# Altium integrated library Altera Mercury.IntLib: 11 symbols (part 4 of 4)
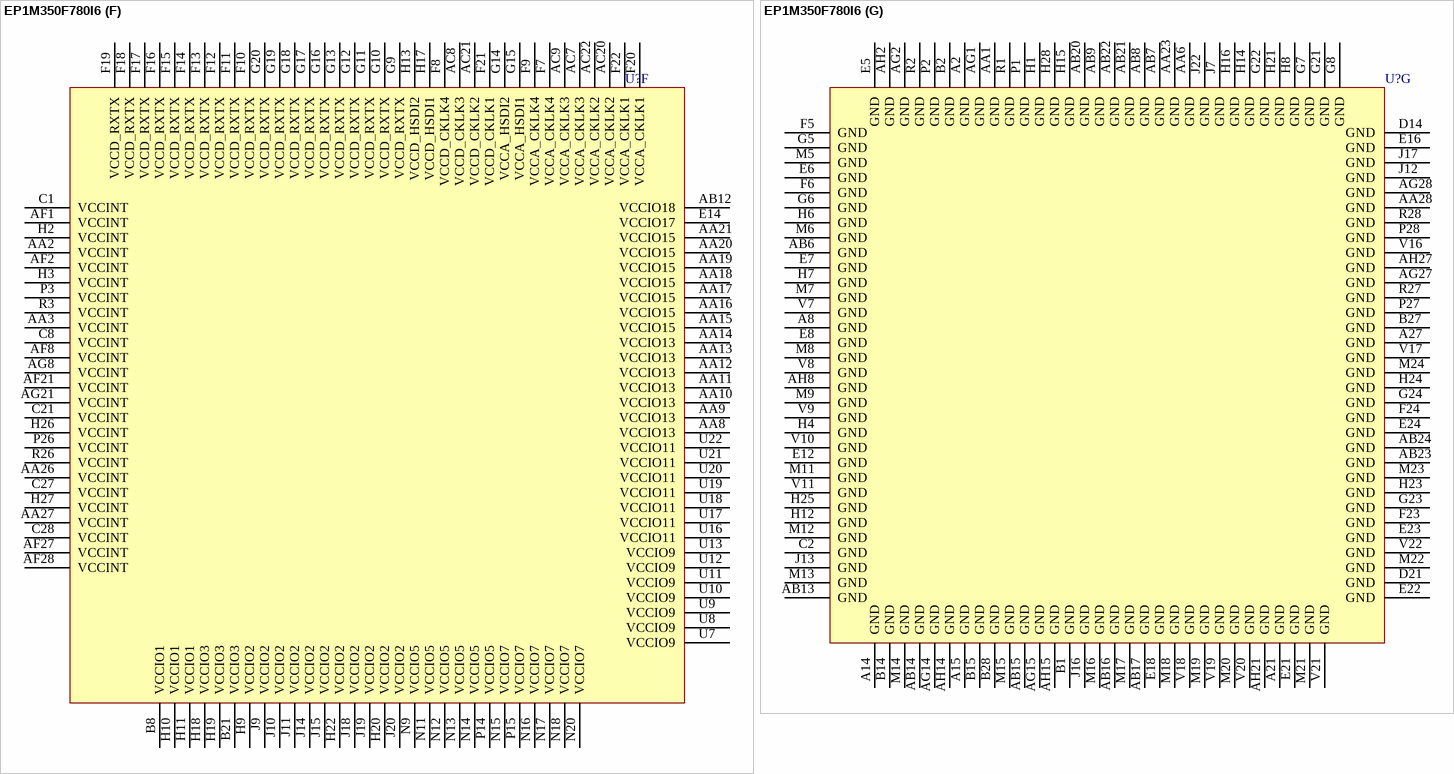
[diagram p38: symbol EP1M350F780I6]

## EP1M350F780I6
designator U?
Mercury 1.8V FPGA, 486 I/O pins, 780-Pin FineLine BGA, Speed Grade 6, Industrial Grade; Published: 17-Jul-2002; LatestRevisionDate: 13-Apr-2006; LatestRevisionNote: IPC-7351 Footprint Added.; DatasheetVersion: ver2.2, Jan-2003; PackageVersion: ver14.1, Oct-2005; PackageReference: FBGA780; Publisher: Altium Limited; PackageDescription: 780-Ball FineLine Ball Grid Array (FBGA780) - Flip Chip; Code_JEDEC: MS-034-AAM-1; ComponentLink1Description: Manufacturer Link; ComponentLink1URL: http://www.altera.com/products/devices/mercury/overview/mcy-overview.html; ComponentLink2Description: Datasheet; ComponentLink2URL: http://www.altera.com/literature/ds/dsmercury.pdf; ComponentLink3Description: Packaging Specification; ComponentLink3URL: http://www.altera.com/literature/ds/dspkg.pdf
footprint FBGA780 (BGA, 780-Leads, Body 29x29mm, Pitch 1mm)
3D model EP1M350-FBGA780 (780-Ball FineLine Ball Grid Array (FBGA780) - Flip Chip)
part A pins: A3 IO, HSDI_RX1p (io), A4 IO, HSDI_RX2p (io), A5 IO, HSDI_RX3p (io), A6 IO, HSDI_RX4p (io), A7 IO, HSDI_RX5p (io), A9 IO, HSDI_RX6p (io), A10 IO, HSDI_RX7p (io), A11 IO, HSDI_RX8p (io), A12 IO, HSDI_RX9p (io), A13 HSDI_CLK1n (in), A16 HSDI_CLK2p (in), A17 IO, HSDI_RX10p (io), A18 IO, HSDI_RX11p (io), A19 IO, HSDI_RX12p (io), A20 IO, HSDI_RX13p (io), A22 IO, HSDI_RX14p (io), A23 IO, HSDI_RX15p (io), A24 IO, HSDI_RX16p (io), A25 IO, HSDI_RX17p (io), A26 IO, HSDI_RX18p (io), B3 IO, HSDI_RX1n (io), B4 IO, HSDI_RX2n (io), B5 IO, HSDI_RX3n (io), B6 IO, HSDI_RX4n (io), B7 IO, HSDI_RX5n (io), B9 IO, HSDI_RX6n (io), B10 IO, HSDI_RX7n (io), B11 IO, HSDI_RX8n (io), B12 IO, HSDI_RX9n (io), B13 HSDI_CLK1p (in), B16 HSDI_CLK2n (in), B17 IO, HSDI_RX10n (io), B18 IO, HSDI_RX11n (io), B19 IO, HSDI_RX12n (io), B20 IO, HSDI_RX13n (io), B22 IO, HSDI_RX14n (io), B23 IO, HSDI_RX15n (io), B24 IO, HSDI_RX16n (io), B25 IO, HSDI_RX17n (io), B26 IO, HSDI_RX18n (io), K5 IO, HSDI_TX1n (io), K6 IO, HSDI_TX2n (io), K7 IO, HSDI_TX3n (io), K8 IO, HSDI_TX4n (io), K9 IO, HSDI_TX5n (io), K10 IO, HSDI_TX6n (io), K11 IO, HSDI_TX7n (io), K12 IO, HSDI_TX8n (io), K13 IO, HSDI_TX9n (io), K14 HSDI_TXCLKOUT1n (out), K15 IO, VREF3 (io), K16 IO, HSDI_TX10n (io), K17 IO, HSDI_TX11n (io), K18 IO, HSDI_TX12n (io), K19 IO, HSDI_TX13n (io), K20 IO, HSDI_TX14n (io), K21 IO, HSDI_TX15n (io), K22 IO, HSDI_TX16n (io), K23 IO, HSDI_TX17n (io), K24 IO, HSDI_TX18n (io), L5 IO, HSDI_TX1p (io), L6 IO, HSDI_TX2p (io), L7 IO, HSDI_TX3p (io), L8 IO, HSDI_TX4p (io), L9 IO, HSDI_TX5p (io), L10 IO, HSDI_TX6p (io), L11 IO, HSDI_TX7p (io), L12 IO, HSDI_TX8p (io), L13 IO, HSDI_TX9p (io), L14 HSDI_TXCLKOUT1p (out), L15 IO, VREF4 (io), L16 IO, HSDI_TX10p (io), L17 IO, HSDI_TX11p (io), L18 IO, HSDI_TX12p (io), L19 IO, HSDI_TX13p (io), L20 IO, HSDI_TX14p (io), L21 IO, HSDI_TX15p (io), L22 IO, HSDI_TX16p (io), L23 IO, HSDI_TX17p (io), L24 IO, HSDI_TX18p (io), M10 IO, VREF1 (io), N10 IO, VREF2 (io)
part B pins: AB10 CLKLK_FB3p (in), AB11 CLKLK_FB3n, CLKLK_FB3VREF (in), AB18 CLKLK_FB2n, CLKLK_FB2VREF (in), AB19 CLKLK_FB2p (in), C3 IO, DEV_CLRn, FlexDiff_RX27p (io), C4 IO, FlexDiff_RX27n (io), C5 IO, LOCK4, FlexDiff_TX24n (io), C6 IO, FlexDiff_RX24p (io), C7 IO, FlexDiff_TX21n (io), C9 IO, FlexDiff_RX25p (io), C10 IO, FlexDiff_TX22n (io), C11 IO, FlexDiff_RX26p (io), C12 IO, FlexDiff_TX23n (io), C17 IO, FlexDiff_RX1p (io), C18 IO, FlexDiff_TX1n (io), C19 IO, FlexDiff_RX2p (io), C20 IO, FlexDiff_TX2n (io), C22 IO, FlexDiff_RX3p (io), C23 IO, FlexDiff_TX3n (io), C24 IO, FlexDiff_RX4p (io), C25 IO, FlexDiff_TX4n (io), C26 IO, VREF8, FlexDiff_TX4p (io), D1 IO, DATA2, FlexDiff_RX30n (io), D2 IO, DATA4, FlexDiff_RX30p (io), D3 IO, INIT_DONE, FlexDiff_RX28n (io), D4 IO, nRS, FlexDiff_RX28p (io), D5 IO, VREF5, FlexDiff_TX24p (io), D6 IO, FlexDiff_RX24n (io), D7 IO, FlexDiff_TX21p (io), D9 IO, FlexDiff_RX25n (io), D10 IO, FlexDiff_TX22p (io), D11 IO, FlexDiff_RX26n (io), D12 IO, FlexDiff_TX23p (io), D17 IO, LOCK1, FlexDiff_RX1n (io), D18 IO, FlexDiff_TX1p (io), D19 IO, FlexDiff_RX2n (io), D20 IO, FlexDiff_TX2p (io), D22 IO, FlexDiff_RX3n (io), D23 IO, FlexDiff_TX3p (io), D24 IO, FlexDiff_RX4n (io), D25 IO, FlexDiff_RX7n (io), D26 IO, FlexDiff_RX7p (io), D27 IO, FlexDiff_RX5n (io), D28 IO, FlexDiff_RX5p (io), E1 IO, DATA5, FlexDiff_RX31n (io), E2 IO, DATA1, FlexDiff_RX31p (io), E3 IO, CS, FlexDiff_RX29n (io), E4 IO, CLKUSR, FlexDiff_RX29p (io), E9 CLKLK_FB4p (in), E10 CLKLK_FB4n, CLKLK_FB4VREF (in), E19 CLKLK_FB1n, CLKLK_FB1VREF (in), E20 CLKLK_FB1p (in), E25 IO, FlexDiff_RX8n (io), E26 IO, FlexDiff_RX8p (io), E27 IO, FlexDiff_RX6n (io), E28 IO, FlexDiff_RX6p (io), F1 IO, DATA6, FlexDiff_TX27p (io), F2 IO, DATA7, FlexDiff_TX27n (io), F3 IO, RDYnBSY, FlexDiff_TX25p (io), F4 IO, DEV_OE, FlexDiff_TX25n (io), F25 IO, FlexDiff_TX8n (io), F26 IO, FlexDiff_TX8p (io), F27 IO, FlexDiff_TX6n (io), F28 IO, FlexDiff_TX6p (io), G1 IO, FlexDiff_TX28p (io), G2 IO, DATA3, FlexDiff_TX28n (io), G3 IO, nWS, FlexDiff_TX26p (io), G4 IO, nCS, FlexDiff_TX26n (io), G25 IO, FlexDiff_TX7n (io), G26 IO, FlexDiff_TX7p (io), G27 IO, FlexDiff_TX5p (io), G28 IO, FlexDiff_TX5n (io), H5 IO, VREF6 (io), J1 IO, FlexDiff_RX21n (io), J2 IO, FlexDiff_RX21p (io), J3 IO, FlexDiff_RX23p (io), J4 IO, FlexDiff_RX23n (io), J25 IO, FlexDiff_RX11n (io), J26 IO, FlexDiff_RX11p (io), J27 IO, FlexDiff_RX9n (io), J28 IO, FlexDiff_RX9p (io), K1 IO, FlexDiff_RX22n (io), K2 IO, FlexDiff_RX22p (io), K3 IO, FlexDiff_RX20n (io), K4 IO, FlexDiff_RX20p (io), K25 IO, FlexDiff_RX12n (io), K26 IO, FlexDiff_RX12p (io), K27 IO, FlexDiff_RX10n (io), K28 IO, FlexDiff_RX10p (io), L1 IO, FlexDiff_TX18p (io), L2 IO, FlexDiff_TX18n (io), L3 IO, FlexDiff_TX17n (io), L4 IO, FlexDiff_TX17p (io), L25 IO, FlexDiff_TX11p (io), L26 IO, FlexDiff_TX11n (io), L27 IO, FlexDiff_TX10n (io), L28 IO, FlexDiff_TX10p (io), M1 IO, FlexDiff_TX19p (io), M2 IO, FlexDiff_TX19n (io), M3 IO, FlexDiff_TX16p (io), M4 IO, FlexDiff_TX16n (io), M25 IO, FlexDiff_TX12p (io), M26 IO, FlexDiff_TX12n (io), M27 IO, FlexDiff_TX9n (io), M28 IO, FlexDiff_TX9p (io), N1 IO, FlexDiff_RX18n (io), N2 IO, FlexDiff_RX18p (io), N3 IO, FlexDiff_RX16n (io), N4 IO, FlexDiff_RX16p (io), N19 IO, FlexDiff_RX15p (io), N21 IO, FlexDiff_TX14n (io), N25 IO, FlexDiff_RX14n (io), N26 IO, FlexDiff_RX14p (io), N27 IO, FlexDiff_RX13n (io), N28 IO, FlexDiff_RX13p (io), P4 IO, FlexDiff_TX20p (io), P5 IO (io), P13 IO, FAST_ROW2 (io), P16 IO, FAST_ROW1 (io), P17 IO (io), P18 IO, FlexDiff_TX15n (io), P19 IO, FlexDiff_TX15p (io), P20 IO, FlexDiff_RX15n (io), P21 IO, VREF7, FlexDiff_TX14p (io), R4 IO, FlexDiff_TX20n (io), R13 CLK4p (in), R14 CLK3p (in), R15 CLK2p (in), R16 CLK1p (in), T1 IO, FlexDiff_RX19n (io), T2 IO, FlexDiff_RX19p (io), T3 IO, FlexDiff_RX17n (io), T4 IO, FlexDiff_RX17p (io), T13 CLK4n, CLK4VREF (in), T14 CLK3n, CLK3VREF (in), T15 CLK2n, CLK2VREF (in), T16 CLK1n, CLK1VREF (in), T27 IO, FlexDiff_TX13p (io), T28 IO, FlexDiff_TX13n (io)
part C pins: AA24 IO, FlexDiff_RX40p (io), AA25 IO, FlexDiff_RX40n (io), AB25 IO, FlexDiff_TX37n (io), AB26 IO, FlexDiff_TX37p (io), N5 IO, FlexDiff_RX63p (io), N6 IO, FlexDiff_RX62p (io), N7 IO, FlexDiff_RX55p (io), N8 IO, FlexDiff_TX53n (io), N22 IO, FlexDiff_RX35p (io), N23 IO, FlexDiff_RX33n (io), N24 IO, FlexDiff_RX33p (io), P6 IO, FlexDiff_RX63n (io), P7 IO, FlexDiff_RX62n (io), P8 IO, FlexDiff_RX55n (io), P9 IO, FlexDiff_TX53p (io), P10 IO (io), P11 IO (io), P12 IO (io), P22 IO, FlexDiff_RX35n (io), P23 IO, FlexDiff_RX34n (io), P24 IO, FlexDiff_RX34p (io), P25 IO, FlexDiff_TX29p (io), R5 IO, FlexDiff_TX64n (io), R6 IO, FlexDiff_TX63n (io), R7 IO, FlexDiff_TX56n (io), R8 IO, FlexDiff_RX54p (io), R9 IO, FlexDiff_RX53p (io), R10 IO, FlexDiff_RX52p (io), R11 IO, FlexDiff_TX50n (io), R12 IO, FAST4, FlexDiff_RX49n (io), R17 IO, FAST1, FlexDiff_RX48n (io), R18 IO, FlexDiff_RX46p (io), R19 IO, FlexDiff_RX45p (io), R20 IO, FlexDiff_RX44p (io), R21 IO, FlexDiff_RX43p (io), R22 IO, FlexDiff_TX32n (io), R23 IO, FlexDiff_TX30p (io), R24 IO, FlexDiff_TX30n (io), R25 IO, FlexDiff_TX29n (io), T5 IO, FlexDiff_TX64p (io), T6 IO, FlexDiff_TX63p (io), T7 IO, FlexDiff_TX56p (io), T8 IO, FlexDiff_RX54n (io), T9 IO, FlexDiff_RX53n (io), T10 IO, FlexDiff_RX52n (io), T11 IO, VREF10, FlexDiff_TX50p (io), T12 IO, FAST6, FlexDiff_RX49p (io), T17 IO, FAST3, FlexDiff_RX48p (io), T18 IO, FlexDiff_RX46n (io), T19 IO, FlexDiff_RX45n (io), T20 IO, FlexDiff_RX44n (io), T21 IO, FlexDiff_RX43n (io), T22 IO, VREF12, FlexDiff_TX32p (io), T23 IO, FlexDiff_TX31p (io), T24 IO, FlexDiff_TX31n (io), T25 IO, FlexDiff_RX32n (io), T26 IO, FlexDiff_RX32p (io), U1 IO, FlexDiff_RX60n (io), U2 IO, FlexDiff_RX60p (io), U3 IO, FlexDiff_RX58n (io), U4 IO, FlexDiff_RX58p (io), U5 IO, FlexDiff_RX57p (io), U6 IO, FlexDiff_RX56p (io), U14 IO, FAST_ROW4, FlexDiff_TX47n (io), U15 IO, FAST2, FlexDiff_TX46n (io), U23 IO, FlexDiff_RX42p (io), U24 IO, FlexDiff_RX42n (io), U25 IO, FlexDiff_RX38n (io), U26 IO, FlexDiff_RX38p (io), U27 IO, FlexDiff_RX36n (io), U28 IO, FlexDiff_RX36p (io), V1 IO, FlexDiff_RX61n (io), V2 IO, FlexDiff_RX61p (io), V3 IO, FlexDiff_RX59p (io), V4 IO, FlexDiff_RX59n (io), V5 IO, FlexDiff_RX57n (io), V6 IO, FlexDiff_RX56n (io), V12 IO, FlexDiff_RX50p (io), V13 IO, FlexDiff_RX50n (io), V14 IO, FAST5, FlexDiff_TX47p (io), V15 IO, FAST_ROW3, FlexDiff_TX46p (io), V23 IO, FlexDiff_RX41p (io), V24 IO, FlexDiff_RX41n (io), V25 IO, FlexDiff_RX39n (io), V26 IO, FlexDiff_RX39p (io), V27 IO, FlexDiff_RX37n (io), V28 IO, FlexDiff_RX37p (io), W1 IO, FlexDiff_TX61p (io), W2 IO, FlexDiff_TX61n (io), W3 IO, FlexDiff_TX59p (io), W4 IO, FlexDiff_TX59n (io), W5 IO, FlexDiff_TX58n (io), W6 IO, FlexDiff_TX57n (io), W7 IO, FlexDiff_TX55n (io), W8 IO, FlexDiff_TX55p (io), W9 IO, FlexDiff_TX54n (io), W10 IO, FlexDiff_TX52n (io), W11 IO, FlexDiff_TX51n (io), W12 IO, FlexDiff_TX49n (io), W13 IO, FlexDiff_TX48n (io), W14 IO, FlexDiff_RX51p (io), W15 IO, FlexDiff_RX47p (io), W16 IO, FlexDiff_TX45n (io), W17 IO, FlexDiff_TX44n (io), W18 IO, FlexDiff_TX43n (io), W19 IO, FlexDiff_TX42n (io), W20 IO, FlexDiff_TX41n (io), W21 IO, FlexDiff_TX40n (io), W22 IO, FlexDiff_TX40p (io), W23 IO, FlexDiff_TX39n (io), W24 IO, FlexDiff_TX39p (io), W25 IO, FlexDiff_TX35p (io), W26 IO, FlexDiff_TX35n (io), W27 IO, FlexDiff_TX33p (io), W28 IO, FlexDiff_TX33n (io), Y1 IO, FlexDiff_TX62p (io), Y2 IO, FlexDiff_TX62n (io), Y3 IO, VREF9, FlexDiff_TX60p (io), Y4 IO, FlexDiff_TX60n (io), Y5 IO, FlexDiff_TX58p (io), Y6 IO, FlexDiff_TX57p (io), Y9 IO, FlexDiff_TX54p (io), Y10 IO, FlexDiff_TX52p (io), Y11 IO, FlexDiff_TX51p (io), Y12 IO, FlexDiff_TX49p (io), Y13 IO, FlexDiff_TX48p (io), Y14 IO, FlexDiff_RX51n (io), Y15 IO, FlexDiff_RX47.n (io), Y16 IO, FlexDiff_TX45p (io), Y17 IO, FlexDiff_TX44p (io), Y18 IO, FlexDiff_TX43p (io), Y19 IO, VREF11, FlexDiff_TX42p (io), Y20 IO, FlexDiff_TX41p (io), Y23 IO, FlexDiff_TX38n (io), Y24 IO, FlexDiff_TX38p (io), Y25 IO, FlexDiff_TX36p (io), Y26 IO, FlexDiff_TX36n (io), Y27 IO, FlexDiff_TX34p (io), Y28 IO, FlexDiff_TX34n (io)
part D pins: AA4 IO, FlexDiff_TX97p (io), AA5 IO, FlexDiff_TX97n (io), AB1 IO, FlexDiff_TX99n (io), AB2 IO, FlexDiff_TX99p (io), AB3 IO, FlexDiff_TX98p (io), AB4 IO, FlexDiff_TX98n (io), AB5 IO, VREF13, FlexDiff_TX96p (io), AB27 IO, FlexDiff_TX65n (io), AB28 IO, LOCK2, FlexDiff_TX65p (io), AC1 IO, FlexDiff_TX100n (io), AC2 IO, LOCK3, FlexDiff_TX100p (io), AC3 IO, FlexDiff_RX97n (io), AC4 IO, FlexDiff_RX97p (io), AC5 IO, FlexDiff_RX95n (io), AC6 IO, FlexDiff_TX96n (io), AC14 IO, FAST_ROW6, FlexDiff_RX82n (io), AC15 IO, FAST_ROW5, FlexDiff_RX81p (io), AC16 IO, FlexDiff_TX79p (io), AC17 IO, FlexDiff_RX78n (io), AC18 IO, FlexDiff_TX76p (io), AC19 IO, FlexDiff_RX75n (io), AC23 IO, VREF16, FlexDiff_TX68p (io), AC24 IO, FlexDiff_RX67n (io), AC25 IO, FlexDiff_TX67p (io), AC26 IO, FlexDiff_TX67n (io), AC27 IO, FlexDiff_TX66n (io), AC28 IO, FlexDiff_TX66p (io), AD1 IO, FlexDiff_RX98p (io), AD2 IO, FlexDiff_RX98n (io), AD3 IO, FlexDiff_RX96n (io), AD4 IO, FlexDiff_RX96p (io), AD5 IO, FlexDiff_RX95p (io), AD6 IO, FlexDiff_RX89n (io), AD7 IO, FlexDiff_RX89p (io), AD8 IO, FlexDiff_TX90p (io), AD9 IO, FlexDiff_RX86n (io), AD10 IO, FlexDiff_RX86p (io), AD11 IO, FlexDiff_TX87p (io), AD12 IO, FlexDiff_TX87n (io), AD14 IO, FlexDiff_RX82p (io), AD15 IO, FlexDiff_RX81n (io), AD16 IO, FlexDiff_TX79n (io), AD17 IO, FlexDiff_RX78p (io), AD18 IO, FlexDiff_TX76n (io), AD19 IO, FlexDiff_RX75p (io), AD20 IO, FlexDiff_TX74p (io), AD21 IO, FlexDiff_RX73n (io), AD22 IO, FlexDiff_RX73p (io), AD23 IO, FlexDiff_TX68n (io), AD24 IO, FlexDiff_RX67p (io), AD25 IO, FlexDiff_RX66n (io), AD26 IO, FlexDiff_RX66p (io), AD27 IO, FlexDiff_RX64p (io), AD28 IO, FlexDiff_RX64n (io), AE1 IO, FlexDiff_RX99p (io), AE2 IO, FlexDiff_RX99n (io), AE3 IO, FlexDiff_TX95p (io), AE4 IO, FlexDiff_TX94p (io), AE5 IO, FlexDiff_TX93p (io), AE6 IO, FlexDiff_TX92p (io), AE7 IO, FlexDiff_TX91p (io), AE8 IO, FlexDiff_TX90n (io), AE9 IO, FlexDiff_TX89p (io), AE10 IO, FlexDiff_TX88p (io), AE11 IO, VREF14, FlexDiff_TX86p (io), AE12 IO, FlexDiff_TX85p (io), AE13 IO, FlexDiff_TX84p (io), AE14 IO, FlexDiff_TX83p (io), AE15 IO, FlexDiff_TX82p (io), AE16 IO, FlexDiff_TX81p (io), AE17 IO, FlexDiff_TX80p (io), AE18 IO, VREF15, FlexDiff_TX78p (io), AE19 IO, FlexDiff_TX77p (io), AE20 IO, FlexDiff_TX75p (io), AE21 IO, FlexDiff_TX74n (io), AE22 IO, FlexDiff_TX73p (io), AE23 IO, FlexDiff_TX72p (io), AE24 IO, FlexDiff_TX71p (io), AE25 IO, FlexDiff_TX70p (io), AE26 IO, FlexDiff_TX69p (io), AE27 IO, FlexDiff_RX65p (io), AE28 IO, FlexDiff_RX65n (io), AF3 IO, FlexDiff_TX95n (io), AF4 IO, FlexDiff_TX94n (io), AF5 IO, FlexDiff_TX93n (io), AF6 IO, FlexDiff_TX92n (io), AF7 IO, FlexDiff_TX91n (io), AF9 IO, FlexDiff_TX89n (io), AF10 IO, FlexDiff_TX88n (io), AF11 IO, FlexDiff_TX86n (io), AF12 IO, FlexDiff_TX85n (io), AF13 IO, FlexDiff_TX84n (io), AF14 IO, FlexDiff_TX83n (io), AF15 IO, FlexDiff_TX82n (io), AF16 IO, FlexDiff_TX81n (io), AF17 IO, FlexDiff_TX80n (io), AF18 IO, FlexDiff_TX78n (io), AF19 IO, FlexDiff_TX77n (io), AF20 IO, FlexDiff_TX75n (io), AF22 IO, FlexDiff_TX73n (io), AF23 IO, FlexDiff_TX72n (io), AF24 IO, FlexDiff_TX71n (io), AF25 IO, FlexDiff_TX70n (io), AF26 IO, FlexDiff_TX69n (io), AG3 IO, FlexDiff_RX94n (io), AG4 IO, FlexDiff_RX93n (io), AG5 IO, FlexDiff_RX92n (io), AG6 IO, FlexDiff_RX91n (io), AG7 IO, FlexDiff_RX90n (io), AG9 IO, FlexDiff_RX88n (io), AG10 IO, FlexDiff_RX87n (io), AG11 IO, FlexDiff_RX85n (io), AG12 IO, FlexDiff_RX84n (io), AG13 IO, FlexDiff_RX83n (io), AG16 IO, FlexDiff_RX80n (io), AG17 IO, FlexDiff_RX79n (io), AG18 IO, FlexDiff_RX77n (io), AG19 IO, FlexDiff_RX76n (io), AG20 IO, FlexDiff_RX74n (io), AG22 IO, FlexDiff_RX72n (io), AG23 IO, FlexDiff_RX71n (io), AG24 IO, FlexDiff_RX70n (io), AG25 IO, FlexDiff_RX69n (io), AG26 IO, FlexDiff_RX68n (io), AH3 IO, FlexDiff_RX94p (io), AH4 IO, FlexDiff_RX93p (io), AH5 IO, FlexDiff_RX92p (io), AH6 IO, FlexDiff_RX91p (io), AH7 IO, FlexDiff_RX90p (io), AH9 IO, FlexDiff_RX88p (io), AH10 IO, FlexDiff_RX87p (io), AH11 IO, FlexDiff_RX85p (io), AH12 IO, FlexDiff_RX84p (io), AH13 IO, FlexDiff_RX83p (io), AH16 IO, FlexDiff_RX80p (io), AH17 IO, FlexDiff_RX79p (io), AH18 IO, FlexDiff_RX77p (io), AH19 IO, FlexDiff_RX76p (io), AH20 IO, FlexDiff_RX74p (io), AH22 IO, FlexDiff_RX72p (io), AH23 IO, FlexDiff_RX71p (io), AH24 IO, FlexDiff_RX70p (io), AH25 IO, FlexDiff_RX69p (io), AH26 IO, FlexDiff_RX68p (io)
part E pins: AA7 VCC_CKOUT3 (power), AA22 VCC_CKOUT2 (power), AC10 TDO (out), AC11 TDI (in), AC12 TMS (in), AC13 TCK (in), AD13 TRST (in), C13 MSEL0 (in), C14 DCLK (io), C15 CLKLK_ENA (in), C16 CONF_DONE (io), D8 nCEO (out), D13 nCONFIG (in), D15 MSEL1 (in), D16 PLLRDY (out), E11 VCCSEL (in), E13 DATA0 (in), E15 nSTATUS (io), E17 nCE (in), J5 CLKLK_OUT4p, J6 CLKLK_OUT4n, J8 VCC_CKOUT4 (power), J21 VCC_CKOUT1 (power), J23 CLKLK_OUT1p, J24 CLKLK_OUT1n, Y7 CLKLK_OUT3p, Y8 CLKLK_OUT3n, Y21 CLKLK_OUT2p, Y22 CLKLK_OUT2n
part F pins: AA2 VCCINT (power), AA3 VCCINT (power), AA8 VCCIO13 (power), AA9 VCCIO13 (power), AA10 VCCIO13 (power), AA11 VCCIO13 (power), AA12 VCCIO13 (power), AA13 VCCIO13 (power), AA14 VCCIO13 (power), AA15 VCCIO15 (power), AA16 VCCIO15 (power), AA17 VCCIO15 (power), AA18 VCCIO15 (power), AA19 VCCIO15 (power), AA20 VCCIO15 (power), AA21 VCCIO15 (power), AA26 VCCINT (power), AA27 VCCINT (power), AB12 VCCIO18 (power), AC7 VCCA_CKLK3 (power), AC8 VCCD_CKLK3 (power), AC9 VCCA_CKLK3 (power), AC20 VCCA_CKLK2 (power), AC21 VCCD_CKLK2 (power), AC22 VCCA_CKLK2 (power), AF1 VCCINT (power), AF2 VCCINT (power), AF8 VCCINT (power), AF21 VCCINT (power), AF27 VCCINT (power), AF28 VCCINT (power), AG8 VCCINT (power), AG21 VCCINT (power), B8 VCCIO1 (power), B21 VCCIO3 (power), C1 VCCINT (power), C8 VCCINT (power), C21 VCCINT (power), C27 VCCINT (power), C28 VCCINT (power), E14 VCCIO17 (power), F7 VCCA_CKLK4 (power), F8 VCCD_CKLK4 (power), F9 VCCA_CKLK4 (power), F10 VCCD_RXTX (power), F11 VCCD_RXTX (power), F12 VCCD_RXTX (power), F13 VCCD_RXTX (power), F14 VCCD_RXTX (power), F15 VCCD_RXTX (power), F16 VCCD_RXTX (power), F17 VCCD_RXTX (power), F18 VCCD_RXTX (power), F19 VCCD_RXTX (power), F20 VCCA_CKLK1 (power), F21 VCCD_CKLK1 (power), F22 VCCA_CKLK1 (power), G9 VCCD_RXTX (power), G10 VCCD_RXTX (power), G11 VCCD_RXTX (power), G12 VCCD_RXTX (power), G13 VCCD_RXTX (power), G14 VCCA_HSDI2 (power), G15 VCCA_HSDI1 (power), G16 VCCD_RXTX (power), G17 VCCD_RXTX (power), G18 VCCD_RXTX (power), G19 VCCD_RXTX (power), G20 VCCD_RXTX (power), H2 VCCINT (power), H3 VCCINT (power), H9 VCCIO2 (power), H10 VCCIO1 (power), H11 VCCIO1 (power), H13 VCCD_HSDI2 (power), H17 VCCD_HSDI1 (power), H18 VCCIO3 (power), H19 VCCIO3 (power), H20 VCCIO2 (power), H22 VCCIO2 (power), H26 VCCINT (power), H27 VCCINT (power), J9 VCCIO2 (power), J10 VCCIO2 (power), J11 VCCIO2 (power), J14 VCCIO2 (power), J15 VCCIO2 (power), J18 VCCIO2 (power), J19 VCCIO2 (power), J20 VCCIO2 (power), N9 VCCIO5 (power), N11 VCCIO5 (power), N12 VCCIO5 (power), N13 VCCIO5 (power), N14 VCCIO5 (power), N15 VCCIO7 (power), N16 VCCIO7 (power), N17 VCCIO7 (power), N18 VCCIO7 (power), N20 VCCIO7 (power), P3 VCCINT (power), P14 VCCIO5 (power), P15 VCCIO7 (power), P26 VCCINT (power), R3 VCCINT (power), R26 VCCINT (power), U7 VCCIO9 (power), U8 VCCIO9 (power), U9 VCCIO9 (power), U10 VCCIO9 (power), U11 VCCIO9 (power), U12 VCCIO9 (power), U13 VCCIO9 (power), U16 VCCIO11 (power), U17 VCCIO11 (power), U18 VCCIO11 (power), U19 VCCIO11 (power), U20 VCCIO11 (power), U21 VCCIO11 (power), U22 VCCIO11 (power)
part G pins: A2 GND (power), A8 GND (power), A14 GND (power), A15 GND (power), A21 GND (power), A27 GND (power), AA1 GND (power), AA6 GND (power), AA23 GND (power), AA28 GND (power), AB6 GND (power), AB7 GND (power), AB8 GND (power), AB9 GND (power), AB13 GND (power), AB14 GND (power), AB15 GND (power), AB16 GND (power), AB17 GND (power), AB20 GND (power), AB21 GND (power), AB22 GND (power), AB23 GND (power), AB24 GND (power), AG1 GND (power), AG2 GND (power), AG14 GND (power), AG15 GND (power), AG27 GND (power), AG28 GND (power), AH2 GND (power), AH8 GND (power), AH14 GND (power), AH15 GND (power), AH21 GND (power), AH27 GND (power), B1 GND (power), B2 GND (power), B14 GND (power), B15 GND (power), B27 GND (power), B28 GND (power), C2 GND (power), D14 GND (power), D21 GND (power), E5 GND (power), E6 GND (power), E7 GND (power), E8 GND (power), E12 GND (power), E16 GND (power), E18 GND (power), E21 GND (power), E22 GND (power), E23 GND (power), E24 GND (power), F5 GND (power), F6 GND (power), F23 GND (power), F24 GND (power), G5 GND (power), G6 GND (power), G7 GND (power), G8 GND (power), G21 GND (power), G22 GND (power), G23 GND (power), G24 GND (power), H1 GND (power), H4 GND (power), H6 GND (power), H7 GND (power), H8 GND (power), H12 GND (power), H14 GND (power), H15 GND (power), H16 GND (power), H21 GND (power), H23 GND (power), H24 GND (power), H25 GND (power), H28 GND (power), J7 GND (power), J12 GND (power), J13 GND (power), J16 GND (power), J17 GND (power), J22 GND (power), M5 GND (power), M6 GND (power), M7 GND (power), M8 GND (power), M9 GND (power), M11 GND (power), M12 GND (power), M13 GND (power), M14 GND (power), M15 GND (power), M16 GND (power), M17 GND (power), M18 GND (power), M19 GND (power), M20 GND (power), M21 GND (power), M22 GND (power), M23 GND (power), M24 GND (power), P1 GND (power), P2 GND (power), P27 GND (power), P28 GND (power), R1 GND (power), R2 GND (power), R27 GND (power), R28 GND (power), V7 GND (power), V8 GND (power), V9 GND (power), V10 GND (power), V11 GND (power), V16 GND (power), V17 GND (power), V18 GND (power), V19 GND (power), V20 GND (power), V21 GND (power), V22 GND (power)
part A text: BANK 1; BANK 2; HSDI; BANK 4; BANK 3
part B text: BANK 5; BANK 6; BANK 8; BANK 7
part C text: BANK 9; BANK 10; BANK 12; BANK 11
part D text: BANK 13; BANK 14; BANK 16; BANK 15